# Altium footprint library Connector_Harwin.PcbLib: 102 footprints (part 5 of 7)
Each footprint in its own frame and in the unit in brackets; x right, y up, seen from the top. Pads: shape width x height; smd on the part's side, far side on the other; paste and mask are expansions set on the pad; w line width, h text height; cw(c..) or ccw(c..) is an arc to the next point about the centre after c.
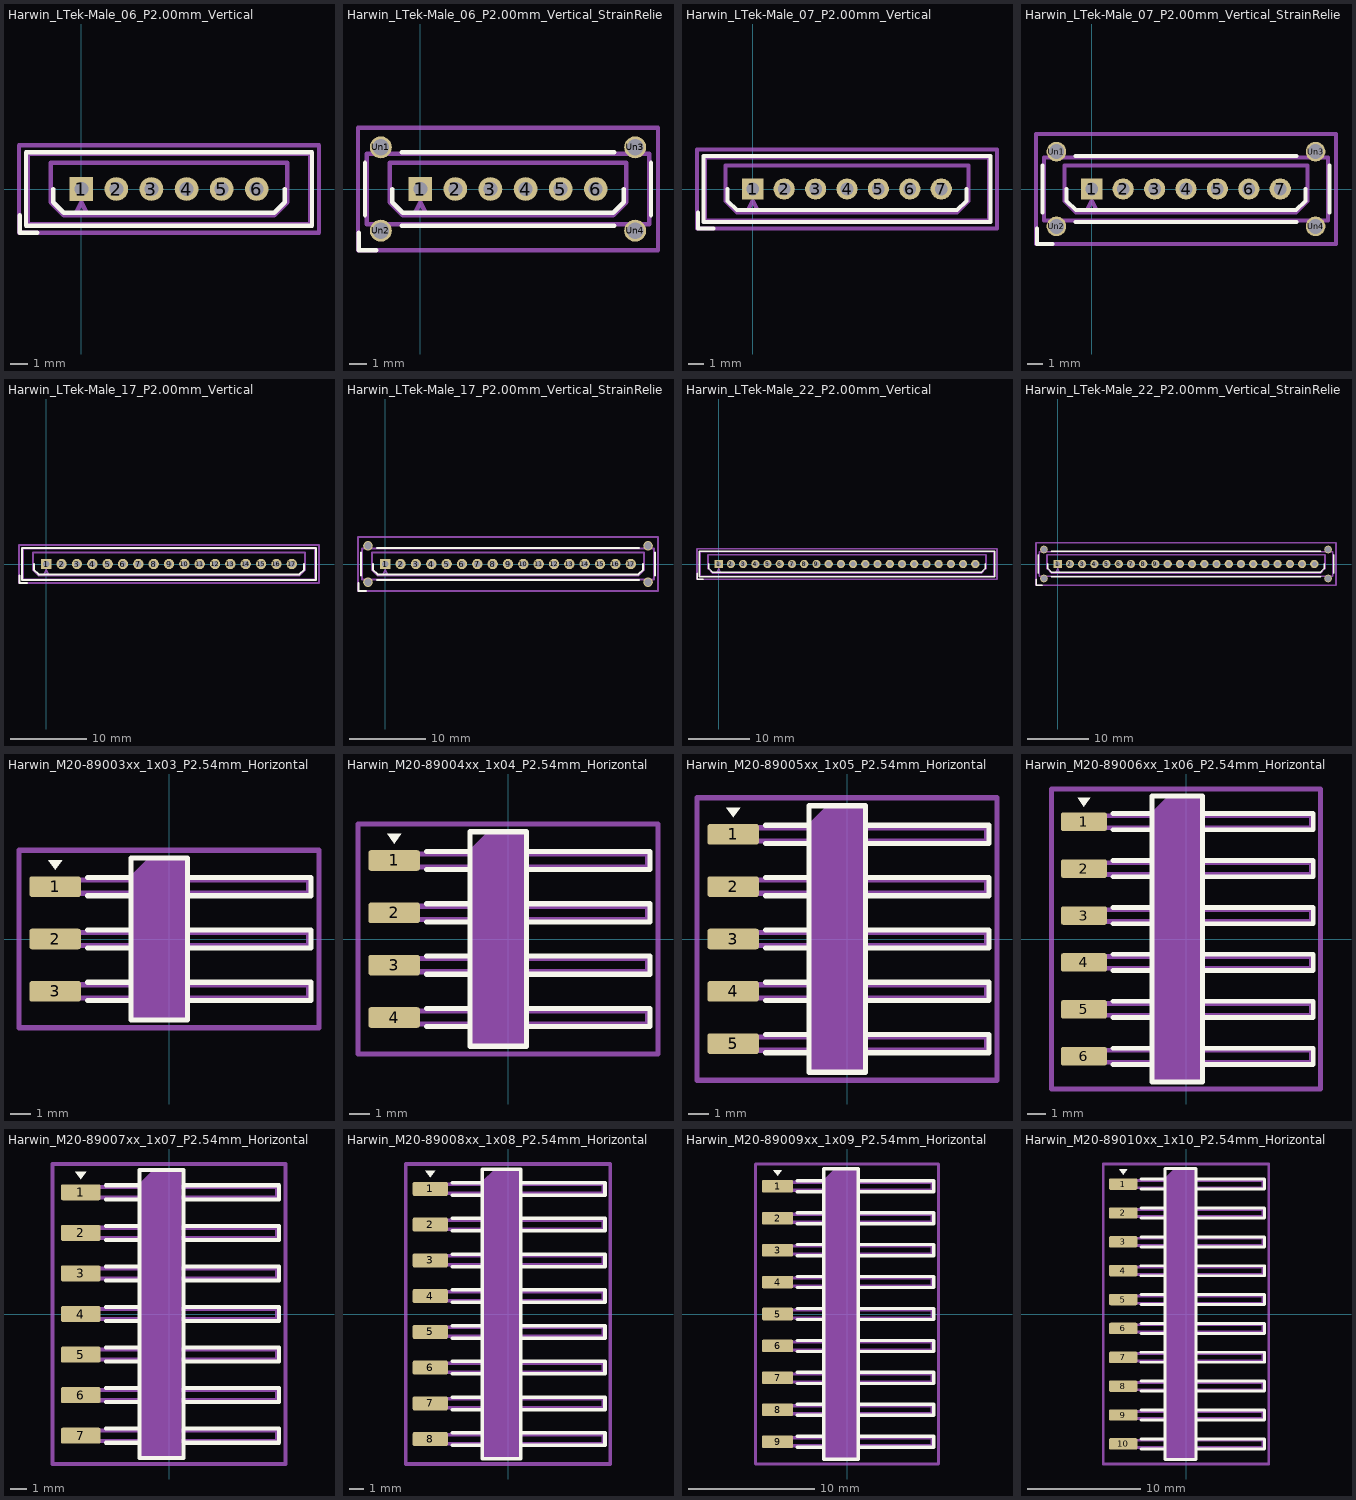
[diagram p4: the footprints below, top view; thin cyan lines are the x and y axes]

## Harwin_LTek-Male_06_P2.00mm_Vertical [mm]
pads (6):
  rect 1.35x1.35 hole 0.8: 1(0,0)
  round 1.35 hole 0.8: 2(2,0) 3(4,0) 4(6,0) 5(8,0) 6(10,0)
F.SilkS:
  lines w0.254: -3.5,-1.5 -3.5,-2.5 -2.5,-2.5 ; -1.6,0 -1.6,-0.75 -1,-1.35 5,-1.35 11,-1.35 11.6,-0.75 11.6,0 ; -3.15,-2.1 13.15,-2.1 13.15,2.1 -3.15,2.1 -3.15,-2.1
Top Assembly:
  lines w0.254: -3.05,-2 13.05,-2 13.05,2 -3.05,2 -3.05,-2 ; -1.75,-0.75 -1,-1.5 11,-1.5 11.75,-0.75 11.75,1.5 -1.75,1.5 -1.75,-0.75 ; -0.3,-1.35 0,-0.75 0.3,-1.35 -0.3,-1.35
  text "'.Designator'" at 0.953,-0.84 h1
Top Courtyard:
  lines w0.254: -3.55,-2.5 13.55,-2.5 13.55,2.5 -3.55,2.5 -3.55,-2.5
Top Designator:
  text ".Designator" at -2.618,-0.508 h1.52

## Harwin_LTek-Male_06_P2.00mm_Vertical_StrainRelief [mm]
pads (10):
  rect 1.35x1.35 hole 0.8: 1(0,0)
  round 1.35 hole 0.8: 2(2,0) 3(4,0) 4(6,0) 5(8,0) 6(10,0)
  round 1.25 hole 0.95: Un1(-2.25,2.375) Un2(-2.25,-2.375) Un3(12.25,2.375) Un4(12.25,-2.375)
F.SilkS:
  lines w0.254: -3.5,-2.5 -3.5,-3.5 -2.5,-3.5 ; -3.15,-1.5 -3.15,1.5 ; -1.6,0 -1.6,-0.75 -1,-1.35 5,-1.35 11,-1.35 11.6,-0.75 11.6,0 ; -1.05,-2.1 11.05,-2.1 ; -1.05,2.1 11.05,2.1 ; 13.15,-1.5 13.15,1.5
Top Assembly:
  lines w0.254: -3.05,-2 13.05,-2 13.05,2 -3.05,2 -3.05,-2 ; -1.75,-0.75 -1,-1.5 11,-1.5 11.75,-0.75 11.75,1.5 -1.75,1.5 -1.75,-0.75 ; -0.3,-1.35 0,-0.75 0.3,-1.35 -0.3,-1.35
  text "'.Designator'" at 0.953,-0.84 h1
Top Courtyard:
  lines w0.254: -3.55,-3.5 13.55,-3.5 13.55,3.5 -3.55,3.5 -3.55,-3.5
Top Designator:
  text ".Designator" at -2.618,-0.508 h1.52

## Harwin_LTek-Male_07_P2.00mm_Vertical [mm]
pads (7):
  rect 1.35x1.35 hole 0.8: 1(0,0)
  round 1.35 hole 0.8: 2(2,0) 3(4,0) 4(6,0) 5(8,0) 6(10,0) 7(12,0)
F.SilkS:
  lines w0.254: -3.5,-1.5 -3.5,-2.5 -2.5,-2.5 ; -1.6,0 -1.6,-0.75 -1,-1.35 6,-1.35 13,-1.35 13.6,-0.75 13.6,0 ; -3.15,-2.1 15.15,-2.1 15.15,2.1 -3.15,2.1 -3.15,-2.1
Top Assembly:
  lines w0.254: -3.05,-2 15.05,-2 15.05,2 -3.05,2 -3.05,-2 ; -1.75,-0.75 -1,-1.5 13,-1.5 13.75,-0.75 13.75,1.5 -1.75,1.5 -1.75,-0.75 ; -0.3,-1.35 0,-0.75 0.3,-1.35 -0.3,-1.35
  text "'.Designator'" at 1.953,-0.84 h1
Top Courtyard:
  lines w0.254: -3.55,-2.5 15.55,-2.5 15.55,2.5 -3.55,2.5 -3.55,-2.5
Top Designator:
  text ".Designator" at -1.618,-0.508 h1.52

## Harwin_LTek-Male_07_P2.00mm_Vertical_StrainRelief [mm]
pads (11):
  rect 1.35x1.35 hole 0.8: 1(0,0)
  round 1.35 hole 0.8: 2(2,0) 3(4,0) 4(6,0) 5(8,0) 6(10,0) 7(12,0)
  round 1.25 hole 0.95: Un1(-2.25,2.375) Un2(-2.25,-2.375) Un3(14.25,2.375) Un4(14.25,-2.375)
F.SilkS:
  lines w0.254: -3.5,-2.5 -3.5,-3.5 -2.5,-3.5 ; -3.15,-1.5 -3.15,1.5 ; -1.6,0 -1.6,-0.75 -1,-1.35 6,-1.35 13,-1.35 13.6,-0.75 13.6,0 ; -1.05,-2.1 13.05,-2.1 ; -1.05,2.1 13.05,2.1 ; 15.15,-1.5 15.15,1.5
Top Assembly:
  lines w0.254: -3.05,-2 15.05,-2 15.05,2 -3.05,2 -3.05,-2 ; -1.75,-0.75 -1,-1.5 13,-1.5 13.75,-0.75 13.75,1.5 -1.75,1.5 -1.75,-0.75 ; -0.3,-1.35 0,-0.75 0.3,-1.35 -0.3,-1.35
  text "'.Designator'" at 1.953,-0.84 h1
Top Courtyard:
  lines w0.254: -3.55,-3.5 15.55,-3.5 15.55,3.5 -3.55,3.5 -3.55,-3.5
Top Designator:
  text ".Designator" at -1.618,-0.508 h1.52

## Harwin_LTek-Male_17_P2.00mm_Vertical [mm]
pads (17):
  rect 1.35x1.35 hole 0.8: 1(0,0)
  round 1.35 hole 0.8: 2(2,0) 3(4,0) 4(6,0) 5(8,0) 6(10,0) 7(12,0) 8(14,0) 9(16,0) 10(18,0) 11(20,0) 12(22,0) 13(24,0) 14(26,0) 15(28,0) 16(30,0) 17(32,0)
F.SilkS:
  lines w0.254: -3.5,-1.5 -3.5,-2.5 -2.5,-2.5 ; -1.6,0 -1.6,-0.75 -1,-1.35 16,-1.35 33,-1.35 33.6,-0.75 33.6,0 ; -3.15,-2.1 35.15,-2.1 35.15,2.1 -3.15,2.1 -3.15,-2.1
Top Assembly:
  lines w0.254: -3.05,-2 35.05,-2 35.05,2 -3.05,2 -3.05,-2 ; -1.75,-0.75 -1,-1.5 33,-1.5 33.75,-0.75 33.75,1.5 -1.75,1.5 -1.75,-0.75 ; -0.3,-1.35 0,-0.75 0.3,-1.35 -0.3,-1.35
  text "'.Designator'" at 11.953,-0.84 h1
Top Courtyard:
  lines w0.254: -3.55,-2.5 35.55,-2.5 35.55,2.5 -3.55,2.5 -3.55,-2.5
Top Designator:
  text ".Designator" at 8.382,-0.508 h1.52

## Harwin_LTek-Male_17_P2.00mm_Vertical_StrainRelief [mm]
pads (21):
  rect 1.35x1.35 hole 0.8: 1(0,0)
  round 1.35 hole 0.8: 2(2,0) 3(4,0) 4(6,0) 5(8,0) 6(10,0) 7(12,0) 8(14,0) 9(16,0) 10(18,0) 11(20,0) 12(22,0) 13(24,0) 14(26,0) 15(28,0) 16(30,0) 17(32,0)
  round 1.25 hole 0.95: Un1(-2.25,2.375) Un2(-2.25,-2.375) Un3(34.25,2.375) Un4(34.25,-2.375)
F.SilkS:
  lines w0.254: -3.5,-2.5 -3.5,-3.5 -2.5,-3.5 ; -3.15,-1.5 -3.15,1.5 ; -1.6,0 -1.6,-0.75 -1,-1.35 16,-1.35 33,-1.35 33.6,-0.75 33.6,0 ; -1.05,-2.1 33.05,-2.1 ; -1.05,2.1 33.05,2.1 ; 35.15,-1.5 35.15,1.5
Top Assembly:
  lines w0.254: -3.05,-2 35.05,-2 35.05,2 -3.05,2 -3.05,-2 ; -1.75,-0.75 -1,-1.5 33,-1.5 33.75,-0.75 33.75,1.5 -1.75,1.5 -1.75,-0.75 ; -0.3,-1.35 0,-0.75 0.3,-1.35 -0.3,-1.35
  text "'.Designator'" at 11.953,-0.84 h1
Top Courtyard:
  lines w0.254: -3.55,-3.5 35.55,-3.5 35.55,3.5 -3.55,3.5 -3.55,-3.5
Top Designator:
  text ".Designator" at 8.382,-0.508 h1.52

## Harwin_LTek-Male_22_P2.00mm_Vertical [mm]
pads (22):
  rect 1.35x1.35 hole 0.8: 1(0,0)
  round 1.35 hole 0.8: 2(2,0) 3(4,0) 4(6,0) 5(8,0) 6(10,0) 7(12,0) 8(14,0) 9(16,0) 10(18,0) 11(20,0) 12(22,0) 13(24,0) 14(26,0) 15(28,0) 16(30,0) 17(32,0) 18(34,0) 19(36,0) 20(38,0) 21(40,0) 22(42,0)
F.SilkS:
  lines w0.254: -3.5,-1.5 -3.5,-2.5 -2.5,-2.5 ; -1.6,0 -1.6,-0.75 -1,-1.35 21,-1.35 43,-1.35 43.6,-0.75 43.6,0 ; -3.15,-2.1 45.15,-2.1 45.15,2.1 -3.15,2.1 -3.15,-2.1
Top Assembly:
  lines w0.254: -3.05,-2 45.05,-2 45.05,2 -3.05,2 -3.05,-2 ; -1.75,-0.75 -1,-1.5 43,-1.5 43.75,-0.75 43.75,1.5 -1.75,1.5 -1.75,-0.75 ; -0.3,-1.35 0,-0.75 0.3,-1.35 -0.3,-1.35
  text "'.Designator'" at 16.953,-0.84 h1
Top Courtyard:
  lines w0.254: -3.55,-2.5 45.55,-2.5 45.55,2.5 -3.55,2.5 -3.55,-2.5
Top Designator:
  text ".Designator" at 13.382,-0.508 h1.52

## Harwin_LTek-Male_22_P2.00mm_Vertical_StrainRelief [mm]
pads (26):
  rect 1.35x1.35 hole 0.8: 1(0,0)
  round 1.35 hole 0.8: 2(2,0) 3(4,0) 4(6,0) 5(8,0) 6(10,0) 7(12,0) 8(14,0) 9(16,0) 10(18,0) 11(20,0) 12(22,0) 13(24,0) 14(26,0) 15(28,0) 16(30,0) 17(32,0) 18(34,0) 19(36,0) 20(38,0) 21(40,0) 22(42,0)
  round 1.25 hole 0.95: Un1(-2.25,2.375) Un2(-2.25,-2.375) Un3(44.25,2.375) Un4(44.25,-2.375)
F.SilkS:
  lines w0.254: -3.5,-2.5 -3.5,-3.5 -2.5,-3.5 ; -3.15,-1.5 -3.15,1.5 ; -1.6,0 -1.6,-0.75 -1,-1.35 21,-1.35 43,-1.35 43.6,-0.75 43.6,0 ; -1.05,-2.1 43.05,-2.1 ; -1.05,2.1 43.05,2.1 ; 45.15,-1.5 45.15,1.5
Top Assembly:
  lines w0.254: -3.05,-2 45.05,-2 45.05,2 -3.05,2 -3.05,-2 ; -1.75,-0.75 -1,-1.5 43,-1.5 43.75,-0.75 43.75,1.5 -1.75,1.5 -1.75,-0.75 ; -0.3,-1.35 0,-0.75 0.3,-1.35 -0.3,-1.35
  text "'.Designator'" at 16.953,-0.84 h1
Top Courtyard:
  lines w0.254: -3.55,-3.5 45.55,-3.5 45.55,3.5 -3.55,3.5 -3.55,-3.5
Top Designator:
  text ".Designator" at 13.382,-0.508 h1.52

## Harwin_M20-89003xx_1x03_P2.54mm_Horizontal [mm]
pads (3):
  rrect25% 2.5x1 smd: 1(-5.525,2.54) 2(-5.525,0) 3(-5.525,-2.54)
F.SilkS:
  region: -5.525,3.36 -5.865,3.83 -5.185,3.83
  lines w0.254: -3.955,-2.98 -1.845,-2.98 ; -3.955,-2.1 -1.845,-2.1 ; -3.955,-0.44 -1.845,-0.44 ; -3.955,0.44 -1.845,0.44 ; -3.955,2.1 -1.845,2.1 ; -3.955,2.98 -1.845,2.98 ; 0.895,-2.98 6.895,-2.98 6.895,-2.1 0.895,-2.1 ; 0.895,-0.44 6.895,-0.44 6.895,0.44 0.895,0.44 ; -1.845,-3.93 0.895,-3.93 0.895,3.93 -1.845,3.93 -1.845,-3.93 ; 0.895,2.1 6.895,2.1 6.895,2.98 0.895,2.98 0.895,2.1
Top Assembly:
  region: 0.775,-3.81 -1.725,-3.81 -1.725,3.185 -1.1,3.81 0.775,3.81
  lines w0.254: -1.725,-2.86 -6.425,-2.86 -6.425,-2.22 -1.725,-2.22 ; -1.725,-0.32 -6.425,-0.32 -6.425,0.32 -1.725,0.32 ; -1.725,2.22 -6.425,2.22 -6.425,2.86 -1.725,2.86 ; 0.775,-2.86 6.775,-2.86 6.775,-2.22 0.775,-2.22 ; 0.775,-0.32 6.775,-0.32 6.775,0.32 0.775,0.32 ; 0.775,2.22 6.775,2.22 6.775,2.86 0.775,2.86
  text "'.Designator'" at 0.36,-4.047 h1
Top Courtyard:
  lines w0.254: -7.28,-4.31 7.28,-4.31 7.28,4.31 -7.28,4.31 -7.28,-4.31
Top Designator:
  text ".Designator" at -7.618,-0.508 h1.52

## Harwin_M20-89004xx_1x04_P2.54mm_Horizontal [mm]
pads (4):
  rrect25% 2.5x1 smd: 1(-5.525,3.81) 2(-5.525,1.27) 3(-5.525,-1.27) 4(-5.525,-3.81)
F.SilkS:
  region: -5.525,4.63 -5.865,5.1 -5.185,5.1
  lines w0.254: -3.955,-4.25 -1.845,-4.25 ; -3.955,-3.37 -1.845,-3.37 ; -3.955,-1.71 -1.845,-1.71 ; -3.955,-0.83 -1.845,-0.83 ; -3.955,0.83 -1.845,0.83 ; -3.955,1.71 -1.845,1.71 ; -3.955,3.37 -1.845,3.37 ; -3.955,4.25 -1.845,4.25 ; 0.895,-4.25 6.895,-4.25 6.895,-3.37 0.895,-3.37 ; 0.895,-1.71 6.895,-1.71 6.895,-0.83 0.895,-0.83 ; 0.895,0.83 6.895,0.83 6.895,1.71 0.895,1.71 ; -1.845,-5.2 0.895,-5.2 0.895,5.2 -1.845,5.2 -1.845,-5.2 ; 0.895,3.37 6.895,3.37 6.895,4.25 0.895,4.25 0.895,3.37
Top Assembly:
  region: 0.775,-5.08 -1.725,-5.08 -1.725,4.455 -1.1,5.08 0.775,5.08
  lines w0.254: -1.725,-4.13 -6.425,-4.13 -6.425,-3.49 -1.725,-3.49 ; -1.725,-1.59 -6.425,-1.59 -6.425,-0.95 -1.725,-0.95 ; -1.725,0.95 -6.425,0.95 -6.425,1.59 -1.725,1.59 ; -1.725,3.49 -6.425,3.49 -6.425,4.13 -1.725,4.13 ; 0.775,-4.13 6.775,-4.13 6.775,-3.49 0.775,-3.49 ; 0.775,-1.59 6.775,-1.59 6.775,-0.95 0.775,-0.95 ; 0.775,0.95 6.775,0.95 6.775,1.59 0.775,1.59 ; 0.775,3.49 6.775,3.49 6.775,4.13 0.775,4.13
  text "'.Designator'" at 0.36,-4.047 h1
Top Courtyard:
  lines w0.254: -7.28,-5.58 7.28,-5.58 7.28,5.58 -7.28,5.58 -7.28,-5.58
Top Designator:
  text ".Designator" at -7.618,-0.508 h1.52

## Harwin_M20-89005xx_1x05_P2.54mm_Horizontal [mm]
pads (5):
  rrect25% 2.5x1 smd: 1(-5.525,5.08) 2(-5.525,2.54) 3(-5.525,0) 4(-5.525,-2.54) 5(-5.525,-5.08)
F.SilkS:
  region: -5.525,5.9 -5.865,6.37 -5.185,6.37
  lines w0.254: -3.955,-5.52 -1.845,-5.52 ; -3.955,-4.64 -1.845,-4.64 ; -3.955,-2.98 -1.845,-2.98 ; -3.955,-2.1 -1.845,-2.1 ; -3.955,-0.44 -1.845,-0.44 ; -3.955,0.44 -1.845,0.44 ; -3.955,2.1 -1.845,2.1 ; -3.955,2.98 -1.845,2.98 ; -3.955,4.64 -1.845,4.64 ; -3.955,5.52 -1.845,5.52 ; 0.895,-5.52 6.895,-5.52 6.895,-4.64 0.895,-4.64 ; 0.895,-2.98 6.895,-2.98 6.895,-2.1 0.895,-2.1 ; 0.895,-0.44 6.895,-0.44 6.895,0.44 0.895,0.44 ; 0.895,2.1 6.895,2.1 6.895,2.98 0.895,2.98 ; -1.845,-6.47 0.895,-6.47 0.895,6.47 -1.845,6.47 -1.845,-6.47 ; 0.895,4.64 6.895,4.64 6.895,5.52 0.895,5.52 0.895,4.64
Top Assembly:
  region: 0.775,-6.35 -1.725,-6.35 -1.725,5.725 -1.1,6.35 0.775,6.35
  lines w0.254: -1.725,-5.4 -6.425,-5.4 -6.425,-4.76 -1.725,-4.76 ; -1.725,-2.86 -6.425,-2.86 -6.425,-2.22 -1.725,-2.22 ; -1.725,-0.32 -6.425,-0.32 -6.425,0.32 -1.725,0.32 ; -1.725,2.22 -6.425,2.22 -6.425,2.86 -1.725,2.86 ; -1.725,4.76 -6.425,4.76 -6.425,5.4 -1.725,5.4 ; 0.775,-5.4 6.775,-5.4 6.775,-4.76 0.775,-4.76 ; 0.775,-2.86 6.775,-2.86 6.775,-2.22 0.775,-2.22 ; 0.775,-0.32 6.775,-0.32 6.775,0.32 0.775,0.32 ; 0.775,2.22 6.775,2.22 6.775,2.86 0.775,2.86 ; 0.775,4.76 6.775,4.76 6.775,5.4 0.775,5.4
  text "'.Designator'" at 0.36,-4.047 h1
Top Courtyard:
  lines w0.254: -7.28,-6.85 7.28,-6.85 7.28,6.85 -7.28,6.85 -7.28,-6.85
Top Designator:
  text ".Designator" at -7.618,-0.508 h1.52

## Harwin_M20-89006xx_1x06_P2.54mm_Horizontal [mm]
pads (6):
  rrect25% 2.5x1 smd: 1(-5.525,6.35) 2(-5.525,3.81) 3(-5.525,1.27) 4(-5.525,-1.27) 5(-5.525,-3.81) 6(-5.525,-6.35)
F.SilkS:
  region: -5.525,7.17 -5.865,7.64 -5.185,7.64
  lines w0.254: -3.955,-6.79 -1.845,-6.79 ; -3.955,-5.91 -1.845,-5.91 ; -3.955,-4.25 -1.845,-4.25 ; -3.955,-3.37 -1.845,-3.37 ; -3.955,-1.71 -1.845,-1.71 ; -3.955,-0.83 -1.845,-0.83 ; -3.955,0.83 -1.845,0.83 ; -3.955,1.71 -1.845,1.71 ; -3.955,3.37 -1.845,3.37 ; -3.955,4.25 -1.845,4.25 ; -3.955,5.91 -1.845,5.91 ; -3.955,6.79 -1.845,6.79 ; 0.895,-6.79 6.895,-6.79 6.895,-5.91 0.895,-5.91 ; 0.895,-4.25 6.895,-4.25 6.895,-3.37 0.895,-3.37 ; 0.895,-1.71 6.895,-1.71 6.895,-0.83 0.895,-0.83 ; 0.895,0.83 6.895,0.83 6.895,1.71 0.895,1.71 ; 0.895,3.37 6.895,3.37 6.895,4.25 0.895,4.25 ; -1.845,-7.74 0.895,-7.74 0.895,7.74 -1.845,7.74 -1.845,-7.74 ; 0.895,5.91 6.895,5.91 6.895,6.79 0.895,6.79 0.895,5.91
Top Assembly:
  region: 0.775,-7.62 -1.725,-7.62 -1.725,6.995 -1.1,7.62 0.775,7.62
  lines w0.254: -1.725,-6.67 -6.425,-6.67 -6.425,-6.03 -1.725,-6.03 ; -1.725,-4.13 -6.425,-4.13 -6.425,-3.49 -1.725,-3.49 ; -1.725,-1.59 -6.425,-1.59 -6.425,-0.95 -1.725,-0.95 ; -1.725,0.95 -6.425,0.95 -6.425,1.59 -1.725,1.59 ; -1.725,3.49 -6.425,3.49 -6.425,4.13 -1.725,4.13 ; -1.725,6.03 -6.425,6.03 -6.425,6.67 -1.725,6.67 ; 0.775,-6.67 6.775,-6.67 6.775,-6.03 0.775,-6.03 ; 0.775,-4.13 6.775,-4.13 6.775,-3.49 0.775,-3.49 ; 0.775,-1.59 6.775,-1.59 6.775,-0.95 0.775,-0.95 ; 0.775,0.95 6.775,0.95 6.775,1.59 0.775,1.59 ; 0.775,3.49 6.775,3.49 6.775,4.13 0.775,4.13 ; 0.775,6.03 6.775,6.03 6.775,6.67 0.775,6.67
  text "'.Designator'" at 0.36,-4.047 h1
Top Courtyard:
  lines w0.254: -7.28,-8.12 7.28,-8.12 7.28,8.12 -7.28,8.12 -7.28,-8.12
Top Designator:
  text ".Designator" at -7.618,-0.508 h1.52

## Harwin_M20-89007xx_1x07_P2.54mm_Horizontal [mm]
pads (7):
  rrect25% 2.5x1 smd: 1(-5.525,7.62) 2(-5.525,5.08) 3(-5.525,2.54) 4(-5.525,0) 5(-5.525,-2.54) 6(-5.525,-5.08) 7(-5.525,-7.62)
F.SilkS:
  region: -5.525,8.44 -5.865,8.91 -5.185,8.91
  lines w0.254: -3.955,-8.06 -1.845,-8.06 ; -3.955,-7.18 -1.845,-7.18 ; -3.955,-5.52 -1.845,-5.52 ; -3.955,-4.64 -1.845,-4.64 ; -3.955,-2.98 -1.845,-2.98 ; -3.955,-2.1 -1.845,-2.1 ; -3.955,-0.44 -1.845,-0.44 ; -3.955,0.44 -1.845,0.44 ; -3.955,2.1 -1.845,2.1 ; -3.955,2.98 -1.845,2.98 ; -3.955,4.64 -1.845,4.64 ; -3.955,5.52 -1.845,5.52 ; -3.955,7.18 -1.845,7.18 ; -3.955,8.06 -1.845,8.06 ; 0.895,-8.06 6.895,-8.06 6.895,-7.18 0.895,-7.18 ; 0.895,-5.52 6.895,-5.52 6.895,-4.64 0.895,-4.64 ; 0.895,-2.98 6.895,-2.98 6.895,-2.1 0.895,-2.1 ; 0.895,-0.44 6.895,-0.44 6.895,0.44 0.895,0.44 ; 0.895,2.1 6.895,2.1 6.895,2.98 0.895,2.98 ; 0.895,4.64 6.895,4.64 6.895,5.52 0.895,5.52 ; -1.845,-9.01 0.895,-9.01 0.895,9.01 -1.845,9.01 -1.845,-9.01 ; 0.895,7.18 6.895,7.18 6.895,8.06 0.895,8.06 0.895,7.18
Top Assembly:
  region: 0.775,-8.89 -1.725,-8.89 -1.725,8.265 -1.1,8.89 0.775,8.89
  lines w0.254: -1.725,-7.94 -6.425,-7.94 -6.425,-7.3 -1.725,-7.3 ; -1.725,-5.4 -6.425,-5.4 -6.425,-4.76 -1.725,-4.76 ; -1.725,-2.86 -6.425,-2.86 -6.425,-2.22 -1.725,-2.22 ; -1.725,-0.32 -6.425,-0.32 -6.425,0.32 -1.725,0.32 ; -1.725,2.22 -6.425,2.22 -6.425,2.86 -1.725,2.86 ; -1.725,4.76 -6.425,4.76 -6.425,5.4 -1.725,5.4 ; -1.725,7.3 -6.425,7.3 -6.425,7.94 -1.725,7.94 ; 0.775,-7.94 6.775,-7.94 6.775,-7.3 0.775,-7.3 ; 0.775,-5.4 6.775,-5.4 6.775,-4.76 0.775,-4.76 ; 0.775,-2.86 6.775,-2.86 6.775,-2.22 0.775,-2.22 ; 0.775,-0.32 6.775,-0.32 6.775,0.32 0.775,0.32 ; 0.775,2.22 6.775,2.22 6.775,2.86 0.775,2.86 ; 0.775,4.76 6.775,4.76 6.775,5.4 0.775,5.4 ; 0.775,7.3 6.775,7.3 6.775,7.94 0.775,7.94
  text "'.Designator'" at 0.36,-4.047 h1
Top Courtyard:
  lines w0.254: -7.28,-9.39 7.28,-9.39 7.28,9.39 -7.28,9.39 -7.28,-9.39
Top Designator:
  text ".Designator" at -7.618,-0.508 h1.52

## Harwin_M20-89008xx_1x08_P2.54mm_Horizontal [mm]
pads (8):
  rrect25% 2.5x1 smd: 1(-5.525,8.89) 2(-5.525,6.35) 3(-5.525,3.81) 4(-5.525,1.27) 5(-5.525,-1.27) 6(-5.525,-3.81) 7(-5.525,-6.35) 8(-5.525,-8.89)
F.SilkS:
  region: -5.525,9.71 -5.865,10.18 -5.185,10.18
  lines w0.254: -3.955,-9.33 -1.845,-9.33 ; -3.955,-8.45 -1.845,-8.45 ; -3.955,-6.79 -1.845,-6.79 ; -3.955,-5.91 -1.845,-5.91 ; -3.955,-4.25 -1.845,-4.25 ; -3.955,-3.37 -1.845,-3.37 ; -3.955,-1.71 -1.845,-1.71 ; -3.955,-0.83 -1.845,-0.83 ; -3.955,0.83 -1.845,0.83 ; -3.955,1.71 -1.845,1.71 ; -3.955,3.37 -1.845,3.37 ; -3.955,4.25 -1.845,4.25 ; -3.955,5.91 -1.845,5.91 ; -3.955,6.79 -1.845,6.79 ; -3.955,8.45 -1.845,8.45 ; -3.955,9.33 -1.845,9.33 ; 0.895,-9.33 6.895,-9.33 6.895,-8.45 0.895,-8.45 ; 0.895,-6.79 6.895,-6.79 6.895,-5.91 0.895,-5.91 ; 0.895,-4.25 6.895,-4.25 6.895,-3.37 0.895,-3.37 ; 0.895,-1.71 6.895,-1.71 6.895,-0.83 0.895,-0.83 ; 0.895,0.83 6.895,0.83 6.895,1.71 0.895,1.71 ; 0.895,3.37 6.895,3.37 6.895,4.25 0.895,4.25 ; 0.895,5.91 6.895,5.91 6.895,6.79 0.895,6.79 ; -1.845,-10.28 0.895,-10.28 0.895,10.28 -1.845,10.28 -1.845,-10.28 ; 0.895,8.45 6.895,8.45 6.895,9.33 0.895,9.33 0.895,8.45
Top Assembly:
  region: 0.775,-10.16 -1.725,-10.16 -1.725,9.535 -1.1,10.16 0.775,10.16
  lines w0.254: -1.725,-9.21 -6.425,-9.21 -6.425,-8.57 -1.725,-8.57 ; -1.725,-6.67 -6.425,-6.67 -6.425,-6.03 -1.725,-6.03 ; -1.725,-4.13 -6.425,-4.13 -6.425,-3.49 -1.725,-3.49 ; -1.725,-1.59 -6.425,-1.59 -6.425,-0.95 -1.725,-0.95 ; -1.725,0.95 -6.425,0.95 -6.425,1.59 -1.725,1.59 ; -1.725,3.49 -6.425,3.49 -6.425,4.13 -1.725,4.13 ; -1.725,6.03 -6.425,6.03 -6.425,6.67 -1.725,6.67 ; -1.725,8.57 -6.425,8.57 -6.425,9.21 -1.725,9.21 ; 0.775,-9.21 6.775,-9.21 6.775,-8.57 0.775,-8.57 ; 0.775,-6.67 6.775,-6.67 6.775,-6.03 0.775,-6.03 ; 0.775,-4.13 6.775,-4.13 6.775,-3.49 0.775,-3.49 ; 0.775,-1.59 6.775,-1.59 6.775,-0.95 0.775,-0.95 ; 0.775,0.95 6.775,0.95 6.775,1.59 0.775,1.59 ; 0.775,3.49 6.775,3.49 6.775,4.13 0.775,4.13 ; 0.775,6.03 6.775,6.03 6.775,6.67 0.775,6.67 ; 0.775,8.57 6.775,8.57 6.775,9.21 0.775,9.21
  text "'.Designator'" at 0.36,-4.047 h1
Top Courtyard:
  lines w0.254: -7.28,-10.66 7.28,-10.66 7.28,10.66 -7.28,10.66 -7.28,-10.66
Top Designator:
  text ".Designator" at -7.618,-0.508 h1.52

## Harwin_M20-89009xx_1x09_P2.54mm_Horizontal [mm]
pads (9):
  rrect25% 2.5x1 smd: 1(-5.525,10.16) 2(-5.525,7.62) 3(-5.525,5.08) 4(-5.525,2.54) 5(-5.525,0) 6(-5.525,-2.54) 7(-5.525,-5.08) 8(-5.525,-7.62) 9(-5.525,-10.16)
F.SilkS:
  region: -5.525,10.98 -5.865,11.45 -5.185,11.45
  lines w0.254: -3.955,-10.6 -1.845,-10.6 ; -3.955,-9.72 -1.845,-9.72 ; -3.955,-8.06 -1.845,-8.06 ; -3.955,-7.18 -1.845,-7.18 ; -3.955,-5.52 -1.845,-5.52 ; -3.955,-4.64 -1.845,-4.64 ; -3.955,-2.98 -1.845,-2.98 ; -3.955,-2.1 -1.845,-2.1 ; -3.955,-0.44 -1.845,-0.44 ; -3.955,0.44 -1.845,0.44 ; -3.955,2.1 -1.845,2.1 ; -3.955,2.98 -1.845,2.98 ; -3.955,4.64 -1.845,4.64 ; -3.955,5.52 -1.845,5.52 ; -3.955,7.18 -1.845,7.18 ; -3.955,8.06 -1.845,8.06 ; -3.955,9.72 -1.845,9.72 ; -3.955,10.6 -1.845,10.6 ; 0.895,-10.6 6.895,-10.6 6.895,-9.72 0.895,-9.72 ; 0.895,-8.06 6.895,-8.06 6.895,-7.18 0.895,-7.18 ; 0.895,-5.52 6.895,-5.52 6.895,-4.64 0.895,-4.64 ; 0.895,-2.98 6.895,-2.98 6.895,-2.1 0.895,-2.1 ; 0.895,-0.44 6.895,-0.44 6.895,0.44 0.895,0.44 ; 0.895,2.1 6.895,2.1 6.895,2.98 0.895,2.98 ; 0.895,4.64 6.895,4.64 6.895,5.52 0.895,5.52 ; 0.895,7.18 6.895,7.18 6.895,8.06 0.895,8.06 ; -1.845,-11.55 0.895,-11.55 0.895,11.55 -1.845,11.55 -1.845,-11.55 ; 0.895,9.72 6.895,9.72 6.895,10.6 0.895,10.6 0.895,9.72
Top Assembly:
  region: 0.775,-11.43 -1.725,-11.43 -1.725,10.805 -1.1,11.43 0.775,11.43
  lines w0.254: -1.725,-10.48 -6.425,-10.48 -6.425,-9.84 -1.725,-9.84 ; -1.725,-7.94 -6.425,-7.94 -6.425,-7.3 -1.725,-7.3 ; -1.725,-5.4 -6.425,-5.4 -6.425,-4.76 -1.725,-4.76 ; -1.725,-2.86 -6.425,-2.86 -6.425,-2.22 -1.725,-2.22 ; -1.725,-0.32 -6.425,-0.32 -6.425,0.32 -1.725,0.32 ; -1.725,2.22 -6.425,2.22 -6.425,2.86 -1.725,2.86 ; -1.725,4.76 -6.425,4.76 -6.425,5.4 -1.725,5.4 ; -1.725,7.3 -6.425,7.3 -6.425,7.94 -1.725,7.94 ; -1.725,9.84 -6.425,9.84 -6.425,10.48 -1.725,10.48 ; 0.775,-10.48 6.775,-10.48 6.775,-9.84 0.775,-9.84 ; 0.775,-7.94 6.775,-7.94 6.775,-7.3 0.775,-7.3 ; 0.775,-5.4 6.775,-5.4 6.775,-4.76 0.775,-4.76 ; 0.775,-2.86 6.775,-2.86 6.775,-2.22 0.775,-2.22 ; 0.775,-0.32 6.775,-0.32 6.775,0.32 0.775,0.32 ; 0.775,2.22 6.775,2.22 6.775,2.86 0.775,2.86 ; 0.775,4.76 6.775,4.76 6.775,5.4 0.775,5.4 ; 0.775,7.3 6.775,7.3 6.775,7.94 0.775,7.94 ; 0.775,9.84 6.775,9.84 6.775,10.48 0.775,10.48
  text "'.Designator'" at 0.36,-4.047 h1
Top Courtyard:
  lines w0.254: -7.28,-11.93 7.28,-11.93 7.28,11.93 -7.28,11.93 -7.28,-11.93
Top Designator:
  text ".Designator" at -7.618,-0.508 h1.52

## Harwin_M20-89010xx_1x10_P2.54mm_Horizontal [mm]
pads (10):
  rrect25% 2.5x1 smd: 1(-5.525,11.43) 2(-5.525,8.89) 3(-5.525,6.35) 4(-5.525,3.81) 5(-5.525,1.27) 6(-5.525,-1.27) 7(-5.525,-3.81) 8(-5.525,-6.35) 9(-5.525,-8.89) 10(-5.525,-11.43)
F.SilkS:
  region: -5.525,12.25 -5.865,12.72 -5.185,12.72
  lines w0.254: -3.955,-11.87 -1.845,-11.87 ; -3.955,-10.99 -1.845,-10.99 ; -3.955,-9.33 -1.845,-9.33 ; -3.955,-8.45 -1.845,-8.45 ; -3.955,-6.79 -1.845,-6.79 ; -3.955,-5.91 -1.845,-5.91 ; -3.955,-4.25 -1.845,-4.25 ; -3.955,-3.37 -1.845,-3.37 ; -3.955,-1.71 -1.845,-1.71 ; -3.955,-0.83 -1.845,-0.83 ; -3.955,0.83 -1.845,0.83 ; -3.955,1.71 -1.845,1.71 ; -3.955,3.37 -1.845,3.37 ; -3.955,4.25 -1.845,4.25 ; -3.955,5.91 -1.845,5.91 ; -3.955,6.79 -1.845,6.79 ; -3.955,8.45 -1.845,8.45 ; -3.955,9.33 -1.845,9.33 ; -3.955,10.99 -1.845,10.99 ; -3.955,11.87 -1.845,11.87 ; 0.895,-11.87 6.895,-11.87 6.895,-10.99 0.895,-10.99 ; 0.895,-9.33 6.895,-9.33 6.895,-8.45 0.895,-8.45 ; 0.895,-6.79 6.895,-6.79 6.895,-5.91 0.895,-5.91 ; 0.895,-4.25 6.895,-4.25 6.895,-3.37 0.895,-3.37 ; 0.895,-1.71 6.895,-1.71 6.895,-0.83 0.895,-0.83 ; 0.895,0.83 6.895,0.83 6.895,1.71 0.895,1.71 ; 0.895,3.37 6.895,3.37 6.895,4.25 0.895,4.25 ; 0.895,5.91 6.895,5.91 6.895,6.79 0.895,6.79 ; 0.895,8.45 6.895,8.45 6.895,9.33 0.895,9.33 ; -1.845,-12.82 0.895,-12.82 0.895,12.82 -1.845,12.82 -1.845,-12.82 ; 0.895,10.99 6.895,10.99 6.895,11.87 0.895,11.87 0.895,10.99
Top Assembly:
  region: 0.775,-12.7 -1.725,-12.7 -1.725,12.075 -1.1,12.7 0.775,12.7
  lines w0.254: -1.725,-11.75 -6.425,-11.75 -6.425,-11.11 -1.725,-11.11 ; -1.725,-9.21 -6.425,-9.21 -6.425,-8.57 -1.725,-8.57 ; -1.725,-6.67 -6.425,-6.67 -6.425,-6.03 -1.725,-6.03 ; -1.725,-4.13 -6.425,-4.13 -6.425,-3.49 -1.725,-3.49 ; -1.725,-1.59 -6.425,-1.59 -6.425,-0.95 -1.725,-0.95 ; -1.725,0.95 -6.425,0.95 -6.425,1.59 -1.725,1.59 ; -1.725,3.49 -6.425,3.49 -6.425,4.13 -1.725,4.13 ; -1.725,6.03 -6.425,6.03 -6.425,6.67 -1.725,6.67 ; -1.725,8.57 -6.425,8.57 -6.425,9.21 -1.725,9.21 ; -1.725,11.11 -6.425,11.11 -6.425,11.75 -1.725,11.75 ; 0.775,-11.75 6.775,-11.75 6.775,-11.11 0.775,-11.11 ; 0.775,-9.21 6.775,-9.21 6.775,-8.57 0.775,-8.57 ; 0.775,-6.67 6.775,-6.67 6.775,-6.03 0.775,-6.03 ; 0.775,-4.13 6.775,-4.13 6.775,-3.49 0.775,-3.49 ; 0.775,-1.59 6.775,-1.59 6.775,-0.95 0.775,-0.95 ; 0.775,0.95 6.775,0.95 6.775,1.59 0.775,1.59 ; 0.775,3.49 6.775,3.49 6.775,4.13 0.775,4.13 ; 0.775,6.03 6.775,6.03 6.775,6.67 0.775,6.67 ; 0.775,8.57 6.775,8.57 6.775,9.21 0.775,9.21 ; 0.775,11.11 6.775,11.11 6.775,11.75 0.775,11.75
  text "'.Designator'" at 0.36,-4.047 h1
Top Courtyard:
  lines w0.254: -7.28,-13.2 7.28,-13.2 7.28,13.2 -7.28,13.2 -7.28,-13.2
Top Designator:
  text ".Designator" at -7.618,-0.508 h1.52